# Altium footprint library Footprints_Connectors.PcbLib: 19 footprints (part 2 of 2)
Each footprint in its own frame and in the unit in brackets; x right, y up, seen from the top. Pads: shape width x height; smd on the part's side, far side on the other; paste and mask are expansions set on the pad; w line width, h text height; cw(c..) or ccw(c..) is an arc to the next point about the centre after c.
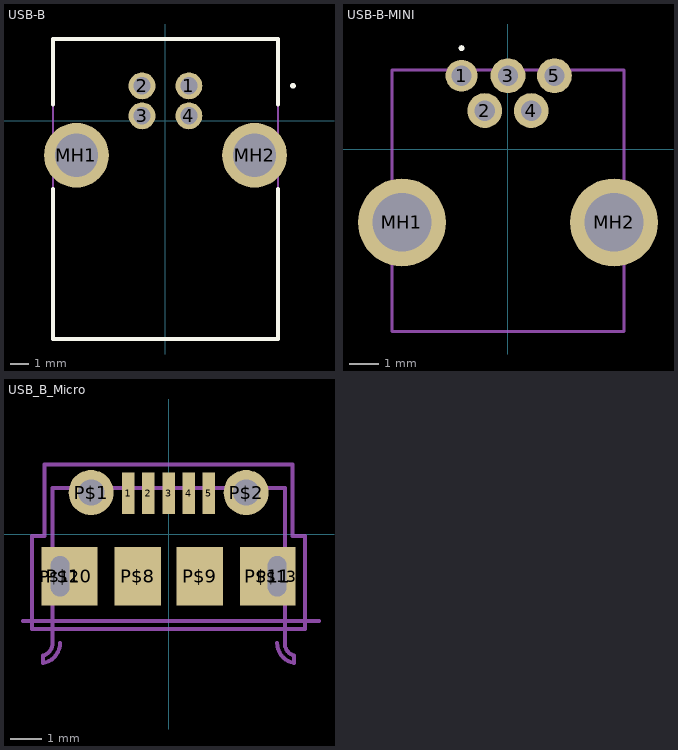
[diagram p1: the footprints below, top view; thin cyan lines are the x and y axes]

## USB-B [mm]
pads (6):
  round 1.431 hole 0.92: 1(1.25,1.85) 2(-1.25,1.85) 3(-1.25,0.25) 4(1.25,0.25)
  round 3.45 hole 2.3: MH1(-4.75,-1.85) MH2(4.75,-1.85)
Top Overlay:
  lines w0.2: -6,-3.65 -6,-11.65 6,-11.65 6,-3.65 ; -6,0.85 -6,4.35 6,4.35 6,0.85 ; 6.75,1.85 ccw(c6.8,1.85) 6.85,1.85 ccw(c6.8,1.85) 6.75,1.85
Mechanical 15:
  lines w0.1: -6,-11.65 6,-11.65 6,4.35 -6,4.35 -6,-11.65
3D body "924.stp": height 10.7, standoff -5, extent -5.985,-11.73 6.015,4.27

## USB-B-MINI [mm]
pads (7):
  round 1.1 hole 0.7: 1(-1.6,2.525)
  round 1.2 hole 0.7: 2(-0.8,1.325) 3(0,2.525) 4(0.8,1.325) 5(1.6,2.525)
  round 3.03 hole 2.02: MH1(-3.65,-2.525) MH2(3.65,-2.525)
Top Overlay:
  lines w0.1: -1.6,3.425 ccw(c-1.6,3.475) -1.6,3.525 ccw(c-1.6,3.475) -1.6,3.425
Mechanical 15:
  lines w0.1: -4,-6.275 -4,2.725 4,2.725 4,-6.275 -4,-6.275
3D body "UB-M5BR-DM14-4D__LF__SN__L_.stp": height 4, standoff -5, extent -4.56,-6.275 4.56,2.773

## USB_B_Micro [mm]
pads (13):
  rect 0.4x1.35 smd mask+0.05: 1(-1.3,1.325) 2(-0.65,1.325) 3(0,1.325) 4(0.65,1.325) 5(1.3,1.325)
  round 1.45 hole 0.85: P$1(-2.5,1.35) P$2(2.5,1.35)
  rect 1.5x1.9 smd: P$8(-1,-1.35) P$9(1,-1.35)
  rect 1.8x1.9 smd: P$10(-3.2,-1.35) P$11(3.2,-1.35)
  oval 0.8x1.6 hole 0.6 slot 1.3 at 90 deg: P$12(-3.5,-1.35) P$13(3.5,-1.35)
Mechanical 1:
  lines w0.127: -4.05,-4.15 -4.05,-3.9 ; -4.049,-3.9 ccw(c-4.128,-3.529) -3.75,-3.503 ; -4.047,-4.15 ccw(c-4.162,-3.497) -3.5,-3.497 ; 3.5,-3.497 ccw(c4.162,-3.497) 4.047,-4.15 ; 3.75,-3.503 ccw(c4.128,-3.529) 4.049,-3.9 ; 4.05,-4.15 4.05,-3.9
Mechanical 13:
  lines w0.127: -4.7,-2.8 4.85,-2.8 ; -3.75,-3.5 -3.75,1.5 3.75,1.5 3.75,-3.5
Mechanical 15:
  lines w0.127: -4.4,-3.05 -4.4,-0.05 -4,-0.05 -4,2.25 4,2.25 4,-0.05 4.4,-0.05 4.4,-3.05 -4.4,-3.05
3D body "105017-0001.step": height 2.71, standoff -0.59, extent -4.1,-3.97 4.1,1.43